# EAGLE library part 750314624 (library Wurth_Power Magnetics_WE-IBTI)
WE-IBTI Isolated Buck Transformers Characteristics Flybuck™ topology Operating Temp: -40°C to +125°C Excellent leakage inductance and interwinding capacitance performance Applications Industrial Programmable Logic Controllers (PLCs) Building automation and process control Isolated interface power: RS-422, RS-485, CAN, I2C, LAN Motor drive control, inverters and industrial automation Isolated low power drivers & regulators, smart e-meters Bias power supplies for gate drives and op-amps <https://www.we-online.com/components/media/o790826v209%20family-MID-IBTI.1673.jpg> Details see: www.we-online.com/en/components/products/WE-IBTI <www.we-online.com/catalog/WE-IBTI/?utm_source=eagle_model&utm_medium=description_link&utm_campaign=eisos_eagle> Created by Ella Wu 2024-06-07 2024 (C) Wurth Elektronik
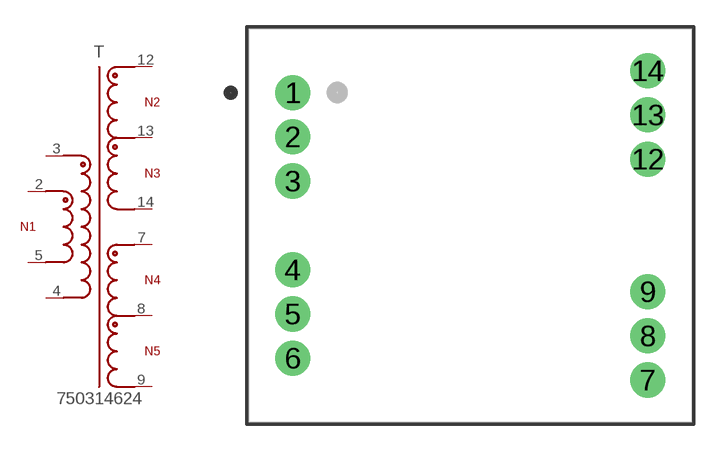
[diagram p21: symbol with the pads of WE-IBTI_EE20/10/6_L22.2W25H16_12PINS; footprint WE-IBTI_EE20/10/6_L22.2W25H16_12PINS]

Designator prefix T

## 750314624 (DATASHEET-URL: https://www.we-online.com/redexpert/spec/750314624?ae; FSWITCH: 250 - 600kHz; HEIGHT: 16mm; IOUT1: 100mA; IOUT2: 100mA; IOUT3: 100mA; IOUT4: 100mA; ISAT: 1.55A; L: 60uH; LENGTH: 22.2mm; LS: 800nH; MOUNT: THT; N: 1.08:1:1.75:1:1.75; PART-NUMBER: 750314624; SIZE: EE20/10/6; VALUE: 750314624; VBUCK: 10.3V; VIN: 17 - 35 V (DC); VOUT1: 9V; VOUT2: 16V; VOUT3: 9V; VOUT4: 16V; VT: 5000V(AC); WIDTH: 25mm)  [WE-IBTI_EE20/10/6_L22.2W25H16_12PINS]
2  2  pas
3  3  pas
4  4  pas
5  5  pas
7  7  pas
8  8  pas
9  9  pas
12  12  pas
13  13  pas
14  14  pas

## Footprint WE-IBTI_EE20/10/6_L22.2W25H16_12PINS (pad centres in mm)
WE-IBTI Isolated Buck Transformers Size:EE20/10/6,THT,12pins LXWXH=22.2X25X16mm
drill 1.32: 1 -10,7.48; 2 -10,4.99; 3 -10,2.5; 4 -10,-2.5; 5 -10,-4.99; 6 -10,-7.48; 7 10,-8.715; 8 10,-6.225; 9 10,-3.735; 12 10,3.735; 13 10,6.225; 14 10,8.715